# Altium schematic symbol library Diode.SchLib: 8 symbols
Pins are listed as number, name and electrical type; pins without a type are passive.

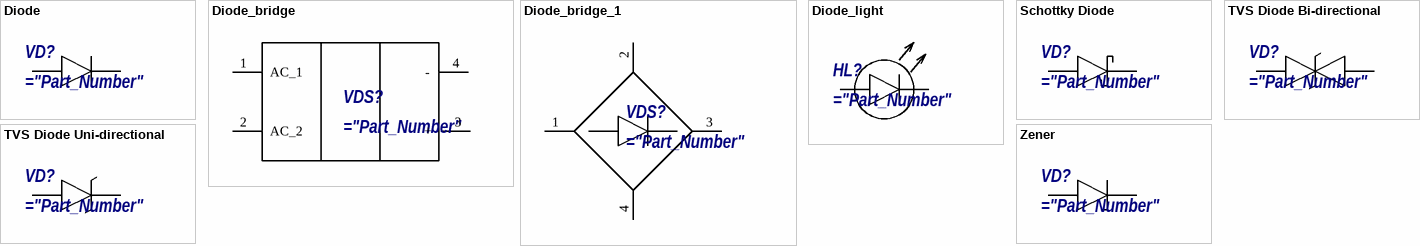
[diagram p0: symbols Diode to Zener]

## Diode
designator VD?
="Purchase"
simulation model diode (Model Description)
pins: 1 A, 2 C

## Diode_bridge
designator VDS?
="Purchase"
pins: 1 AC_1, 2 AC_2, 3 +, 4 -

## Diode_bridge_1
designator VDS?
="Purchase"
pins: 1 2, 2, 3, 4

## Diode_light
designator HL?
="Purchase"
pins: 1 A, 2 C

## Schottky Diode
designator VD?
="Purchase"
simulation model diode (Model Description)
pins: 1 A, 2 C

## TVS Diode Bi-directional
designator VD?
="Purchase"
pins: 1, 2

## TVS Diode Uni-directional
designator VD?
="Purchase"
pins: 1 A, 2 C

## Zener
designator VD?
="Purchase"
simulation model ZENER (Model Description)
simulation model diode (Model Description)
pins: 1 A, 2 C